# Altium schematic symbol library CONN-STD-3P-2510.SchLib: 1 symbol
Pins are listed as number, name and electrical type; pins without a type are passive.

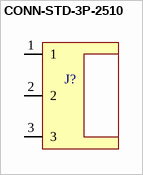
[diagram p0: symbol CONN-STD-3P-2510]

## CONN-STD-3P-2510
designator J?  (value not drawn)
Connector Molex Header 3P 1 Row 2.54mm
pins: 1, 2, 3